# EAGLE library part MCP23008 (library MCP23008)
MSP23008 I2C Port Expander 8 Pin
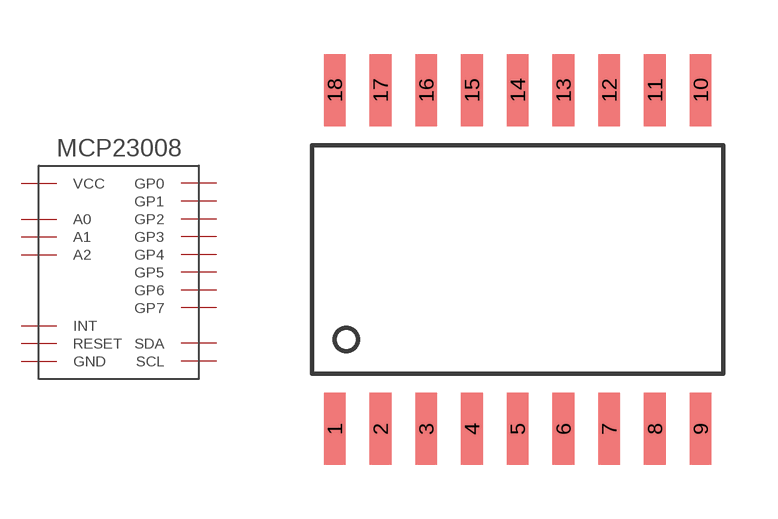
[diagram p0: symbol with the pads of SOIC18; footprint SOIC18]

Designator prefix -

## MCP23008  [SOIC18]
1  SCL
2  SDA
3  A2
4  A1
5  A0
6  RESET
8  INT
9  GND
10  GP0
11  GP1
12  GP2
13  GP3
14  GP4
15  GP5
16  GP6
17  GP7
18  VCC

## Footprint SOIC18 (pad centres in mm)
smd 0.6 x 2: 1 -5.08,-4.7; 2 -3.81,-4.7; 3 -2.54,-4.7; 4 -1.27,-4.7; 5 0,-4.7; 6 1.27,-4.7; 7 2.54,-4.7; 8 3.81,-4.7; 9 5.08,-4.7; 10 5.08,4.7; 11 3.81,4.7; 12 2.54,4.7; 13 1.27,4.7; 14 0,4.7; 15 -1.27,4.7; 16 -2.54,4.7; 17 -3.81,4.7; 18 -5.08,4.7